# Altium schematic symbol library SamacSys.SchLib: 60 symbols
Pins are listed as number, name and electrical type; pins without a type are passive.

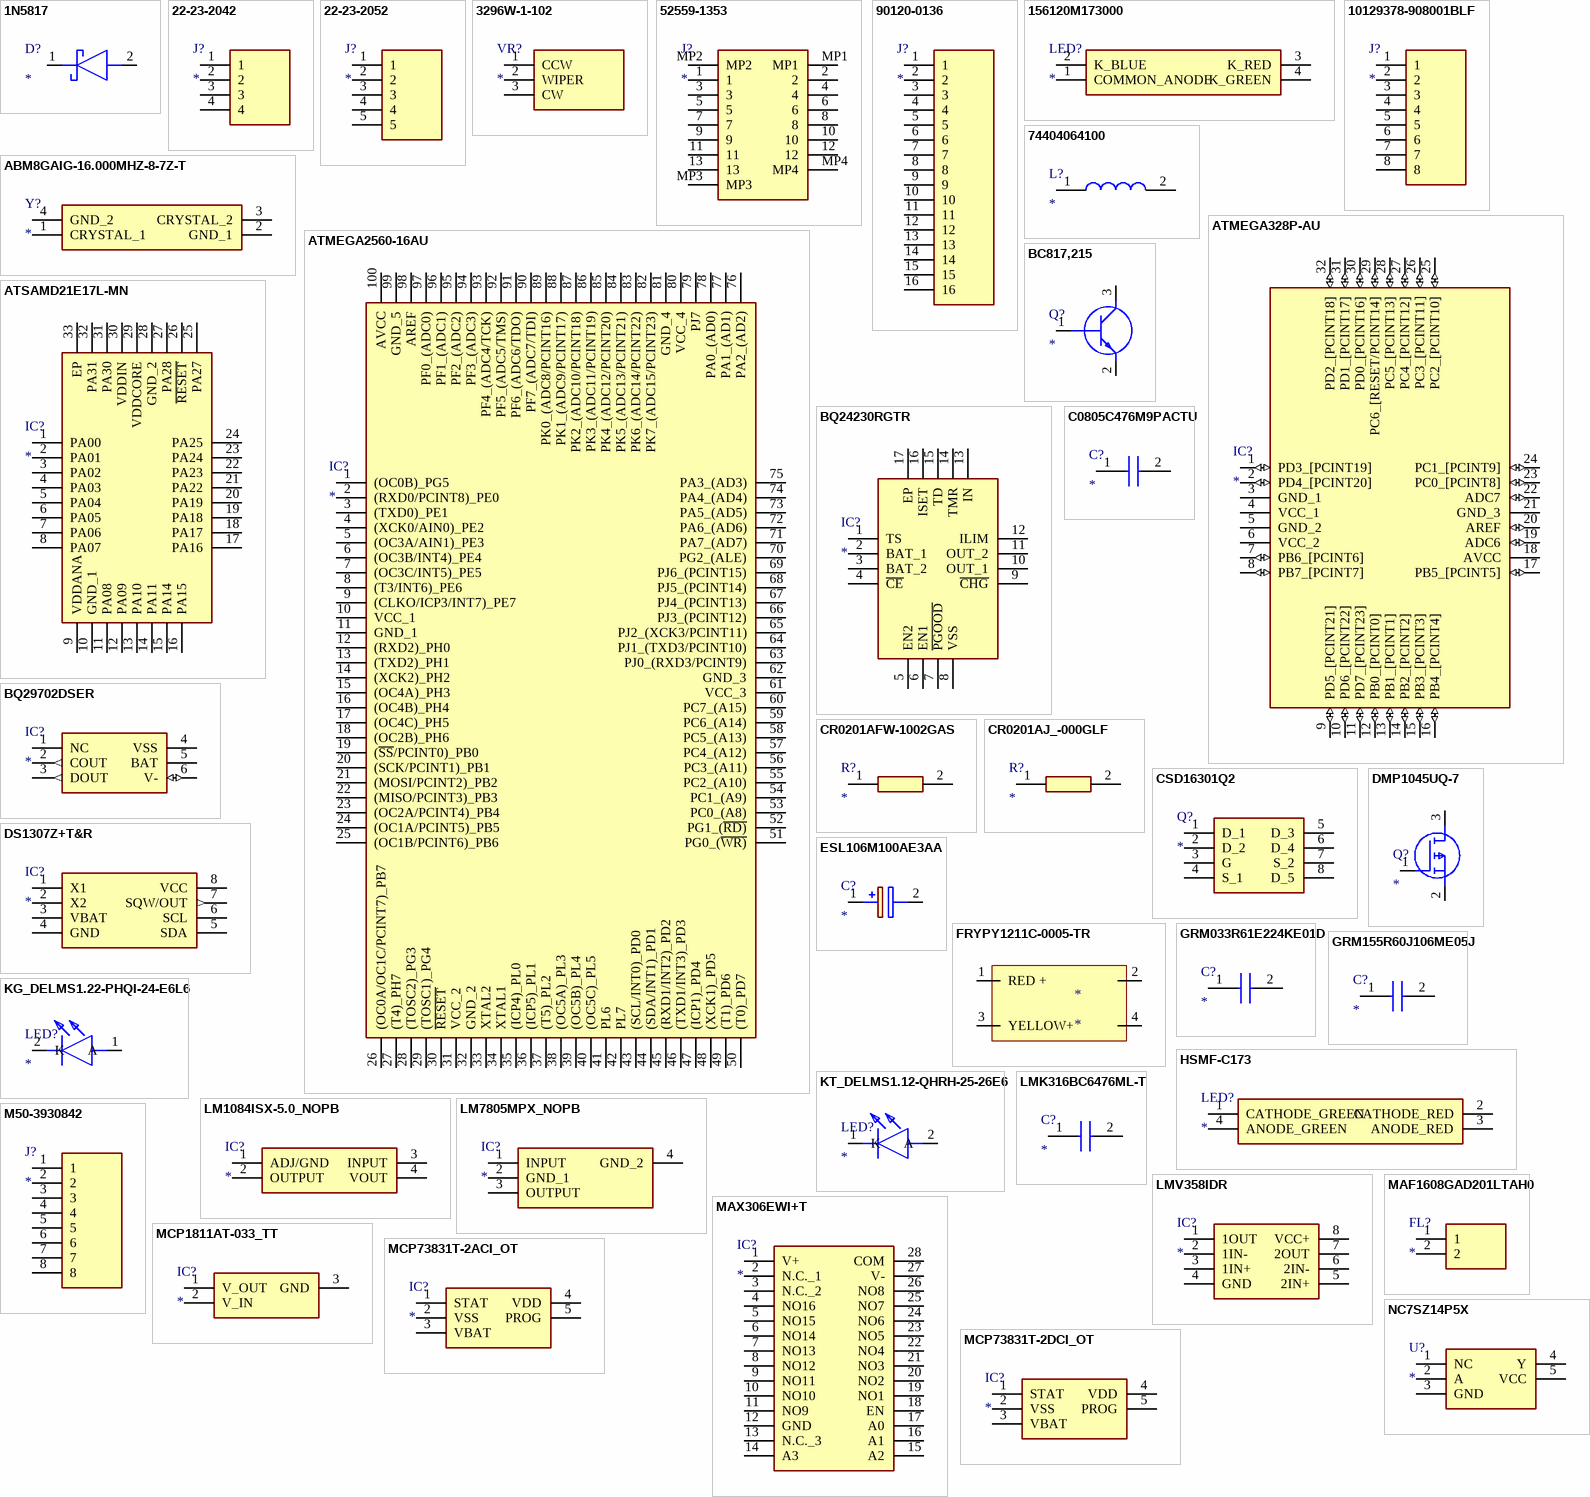
[diagram p0: symbols 1N5817 to NC7SZ14P5X]

## 1N5817
designator D?
Schottky Diode; Manufacturer_Name: Rectron; Manufacturer_Part_Number: 1N5817; Datasheet Link: https://www.arrow.com/en/products/1n5817/rectron
footprint DIOAD1410W90L470D235
pins: 1 K, 2 A

## 22-23-2042
designator J?
Connector; Manufacturer_Name: Molex; Datasheet Link: https://componentsearchengine.com//22-23-2042.pdf; Height: 11.21mm; Mouser2 Part Number: 538-22-23-2042; Mouser2 Price/Stock: https://www.mouser.com/Search/Refine.aspx?Keyword=538-22-23-2042; Manufacturer_Part_Number: 22-23-2042
footprint HDRV4W87P0X254_1X4_1001X635X1121P
pins: 1, 2, 3, 4

## 22-23-2052
designator J?
Connector; Manufacturer_Name: Molex; Datasheet Link: https://componentsearchengine.com//22-23-2052.pdf; Height: 11.08mm; Mouser2 Part Number: 538-22-23-2052; Mouser2 Price/Stock: https://www.mouser.com/Search/Refine.aspx?Keyword=538-22-23-2052; Manufacturer_Part_Number: 22-23-2052
footprint HDRV5W87P0X254_1X5_1255X635X1108P
pins: 1, 2, 3, 4, 5

## 3296W-1-102
designator VR?
Variable Resistor; Manufacturer_Name: Bourns; Manufacturer_Part_Number: 3296W-1-102; Datasheet Link: https://componentsearchengine.com/Datasheets/1/3296W-1-102.pdf; Mouser2 Part Number: 652-3296W-1-102; Mouser2 Price/Stock: https://www.mouser.com/Search/Refine.aspx?Keyword=652-3296W-1-102
footprint 3296W-1
pins: 1 CCW, 2 WIPER, 3 CW

## 52559-1353
designator J?
Connector; Manufacturer_Name: Molex; Manufacturer_Part_Number: 52559-1353; Datasheet Link: https://www.molex.com/molex/products/part-detail/ffc_fpc_connectors/0525591353; Height: 5.5mm
footprint 525591353
pins: 1, 2, 3, 4, 5, 6, 7, 8, 9, 10, 11, 12, 13, MP1, MP2, MP3, MP4

## 90120-0136
designator J?
Connector; Manufacturer_Name: Molex; Manufacturer_Part_Number: 90120-0136; Datasheet Link: https://componentsearchengine.com/Datasheets/1/90120-0136.pdf; Height: 5.6mm; Mouser2 Part Number: 538-90120-0136; Mouser2 Price/Stock: https://www.mouser.com/Search/Refine.aspx?Keyword=538-90120-0136
footprint HDRV16W90P0X254_1X16_4064X249X560P
pins: 1, 2, 3, 4, 5, 6, 7, 8, 9, 10, 11, 12, 13, 14, 15, 16

## 156120M173000
designator LED?
LED; Manufacturer_Name: Wurth Elektronik; Manufacturer_Part_Number: 156120M173000; Datasheet Link: https://componentsearchengine.com//156120M173000.pdf; Height: 1.25mm; Mouser2 Part Number: 710-156120M173000; Mouser2 Price/Stock: https://www.mouser.com/Search/Refine.aspx?Keyword=710-156120M173000
footprint 156120M173000
pins: 1 COMMON_ANODE, 2 K_BLUE, 3 K_RED, 4 K_GREEN

## 10129378-908001BLF
designator J?
Connector; Manufacturer_Name: Amphenol; Manufacturer_Part_Number: 10129378-908001BLF; Datasheet Link: https://cdn.amphenol-icc.com/media/wysiwyg/files/drawing/10129378.pdf; Height: 8.58mm
footprint 2x8
pins: 1, 2, 3, 4, 5, 6, 7, 8

## 74404064100
designator L?
Inductor; Manufacturer_Name: Wurth Elektronik; Manufacturer_Part_Number: 74404064100; Datasheet Link: https://componentsearchengine.com//74404064100.pdf; Height: 4mm; Mouser2 Part Number: 710-74404064100; Mouser2 Price/Stock: https://www.mouser.com/Search/Refine.aspx?Keyword=710-74404064100
footprint 74404064470
pins: 1, 2

## ABM8GAIG-16.000MHZ-8-7Z-T
designator Y?
Crystal or Oscillator; Manufacturer_Name: ABRACON; Manufacturer_Part_Number: ABM8GAIG-16.000MHZ-8-7Z-T; Datasheet Link: https://componentsearchengine.com//ABM8GAIG-16.000MHZ-8-7Z-T.pdf; Height: 0.8mm; Mouser2 Part Number: 815-M8GAIG-16-8-7ZT; Mouser2 Price/Stock: https://www.mouser.com/Search/Refine.aspx?Keyword=815-M8GAIG-16-8-7ZT
footprint ABM8AIG8000MHZ1ZT
pins: 1 CRYSTAL_1, 2 GND_1, 3 CRYSTAL_2, 4 GND_2

## ATMEGA328P-AU
designator IC?
Integrated Circuit; Manufacturer_Name: Microchip; Manufacturer_Part_Number: ATMEGA328P-AU; Datasheet Link: https://componentsearchengine.com/Datasheets/2/ATMEGA328P-AU.pdf; Height: 1.2mm
footprint QFP80P900X900X120-32N
pins: 1 PD3_[PCINT19] (io), 2 PD4_[PCINT20] (io), 3 GND_1 (power), 4 VCC_1 (power), 5 GND_2 (power), 6 VCC_2 (power), 7 PB6_[PCINT6] (io), 8 PB7_[PCINT7] (io), 9 PD5_[PCINT21] (io), 10 PD6_[PCINT22] (io), 11 PD7_[PCINT23] (io), 12 PB0_[PCINT0] (io), 13 PB1_[PCINT1] (io), 14 PB2_[PCINT2] (io), 15 PB3_[PCINT3] (io), 16 PB4_[PCINT4] (io), 17 PB5_[PCINT5] (io), 18 AVCC (power), 19 ADC6 (io), 20 AREF (io), 21 GND_3 (power), 22 ADC7 (io), 23 PC0_[PCINT8] (io), 24 PC1_[PCINT9] (io), 25 PC2_[PCINT10] (io), 26 PC3_[PCINT11] (io), 27 PC4_[PCINT12] (io), 28 PC5_[PCINT13] (io), 29 PC6_[RESET/PCINT14] (io), 30 PD0_[PCINT16] (io), 31 PD1_[PCINT17] (io), 32 PD2_[PCINT18] (io)

## ATMEGA2560-16AU
designator IC?
Integrated Circuit; Manufacturer_Name: Microchip; Manufacturer_Part_Number: ATMEGA2560-16AU; Height: 1.2mm
footprint QFP50P1600X1600X120-100N
pins: 1 (OC0B)_PG5, 2 (RXD0/PCINT8)_PE0, 3 (TXD0)_PE1, 4 (XCK0/AIN0)_PE2, 5 (OC3A/AIN1)_PE3, 6 (OC3B/INT4)_PE4, 7 (OC3C/INT5)_PE5, 8 (T3/INT6)_PE6, 9 (CLKO/ICP3/INT7)_PE7, 10 VCC_1, 11 GND_1, 12 (RXD2)_PH0, 13 (TXD2)_PH1, 14 (XCK2)_PH2, 15 (OC4A)_PH3, 16 (OC4B)_PH4, 17 (OC4C)_PH5, 18 (OC2B)_PH6, 19 (~{SS}/PCINT0)_PB0, 20 (SCK/PCINT1)_PB1, 21 (MOSI/PCINT2)_PB2, 22 (MISO/PCINT3)_PB3, 23 (OC2A/PCINT4)_PB4, 24 (OC1A/PCINT5)_PB5, 25 (OC1B/PCINT6)_PB6, 26 (OC0A/OC1C/PCINT7)_PB7, 27 (T4)_PH7, 28 (TOSC2)_PG3, 29 (TOSC1)_PG4, 30 ~{RESET}, 31 VCC_2, 32 GND_2, 33 XTAL2, 34 XTAL1, 35 (ICP4)_PL0, 36 (ICP5)_PL1, 37 (T5)_PL2, 38 (OC5A)_PL3, 39 (OC5B)_PL4, 40 (OC5C)_PL5, 41 PL6, 42 PL7, 43 (SCL/INT0)_PD0, 44 (SDA/INT1)_PD1, 45 (RXD1/INT2)_PD2, 46 (TXD1/INT3)_PD3, 47 (ICP1)_PD4, 48 (XCK1)_PD5, 49 (T1)_PD6, 50 (T0)_PD7, 51 PG0_(~{WR)}, 52 PG1_(~{RD)}, 53 PC0_(A8), 54 PC1_(A9), 55 PC2_(A10), 56 PC3_(A11), 57 PC4_(A12), 58 PC5_(A13), 59 PC6_(A14), 60 PC7_(A15), 61 VCC_3, 62 GND_3, 63 PJ0_(RXD3/PCINT9), 64 PJ1_(TXD3/PCINT10), 65 PJ2_(XCK3/PCINT11), 66 PJ3_(PCINT12), 67 PJ4_(PCINT13), 68 PJ5_(PCINT14), 69 PJ6_(PCINT15), 70 PG2_(ALE), 71 PA7_(AD7), 72 PA6_(AD6), 73 PA5_(AD5), 74 PA4_(AD4), 75 PA3_(AD3), 76 PA2_(AD2), 77 PA1_(AD1), 78 PA0_(AD0), 79 PJ7, 80 VCC_4, 81 GND_4, 82 PK7_(ADC15/PCINT23), 83 PK6_(ADC14/PCINT22), 84 PK5_(ADC13/PCINT21), 85 PK4_(ADC12/PCINT20), 86 PK3_(ADC11/PCINT19), 87 PK2_(ADC10/PCINT18), 88 PK1_(ADC9/PCINT17), 89 PK0_(ADC8/PCINT16), 90 PF7_(ADC7/TDI), 91 PF6_(ADC6/TDO), 92 PF5_(ADC5/TMS), 93 PF4_(ADC4/TCK), 94 PF3_(ADC3), 95 PF2_(ADC2), 96 PF1_(ADC1), 97 PF0_(ADC0), 98 AREF, 99 GND_5, 100 AVCC

## ATSAMD21E17L-MN
designator IC?
Integrated Circuit; Manufacturer_Name: Microchip; Manufacturer_Part_Number: ATSAMD21E17L-MN; Description: ARM Microcontrollers - MCU 32QFN 105C; Datasheet Link: https://componentsearchengine.com//ATSAMD21E17L-MN.pdf; Height: 1mm; Mouser2 Part Number: 556-ATSAMD21E17L-MN; Mouser2 Price/Stock: https://www.mouser.com/Search/Refine.aspx?Keyword=556-ATSAMD21E17L-MN
footprint QFN50P500X500X100-33N-D
pins: 1 PA00, 2 PA01, 3 PA02, 4 PA03, 5 PA04, 6 PA05, 7 PA06, 8 PA07, 9 VDDANA, 10 GND_1, 11 PA08, 12 PA09, 13 PA10, 14 PA11, 15 PA14, 16 PA15, 17 PA16, 18 PA17, 19 PA18, 20 PA19, 21 PA22, 22 PA23, 23 PA24, 24 PA25, 25 PA27, 26 ~{RESET}, 27 PA28, 28 GND_2, 29 VDDCORE, 30 VDDIN, 31 PA30, 32 PA31, 33 EP

## BC817,215
designator Q?
Transistor BJT NPN; Manufacturer_Name: Nexperia; Manufacturer_Part_Number: BC817,215; Datasheet Link: https://componentsearchengine.com//BC817,215.pdf; Height: 1.1mm; Mouser2 Part Number: 771-BC817-T/R; Mouser2 Price/Stock: https://www.mouser.com/Search/Refine.aspx?Keyword=771-BC817-T%2FR
footprint SOT95P230X110-3N
pins: 1 B, 2 E, 3 C

## BQ24230RGTR
designator IC?
Integrated Circuit; Manufacturer_Name: Texas Instruments; Manufacturer_Part_Number: BQ24230RGTR; Datasheet Link: http://www.ti.com/lit/ds/symlink/bq24232.pdf; Height: 1mm; Mouser2 Part Number: 595-BQ24230RGTR; Mouser2 Price/Stock: https://www.mouser.com/Search/Refine.aspx?Keyword=595-BQ24230RGTR
footprint QFN50P300X300X100-17N-D
pins: 1 TS, 2 BAT_1, 3 BAT_2, 4 ~{CE}, 5 EN2, 6 EN1, 7 ~{PGOOD}, 8 VSS, 9 ~{CHG}, 10 OUT_1, 11 OUT_2, 12 ILIM, 13 IN, 14 TMR, 15 TD, 16 ISET, 17 EP

## BQ29702DSER
designator IC?
Integrated Circuit; Manufacturer_Name: Texas Instruments; Manufacturer_Part_Number: BQ29702DSER; Description: Li-Ion/Li Polymer Advanced Single-Cell Battery Protector IC Family; Datasheet Link: http://www.ti.com/lit/ds/symlink/bq2971.pdf; Height: 0mm; Mouser2 Part Number: 595-BQ29702DSER; Mouser2 Price/Stock: https://www.mouser.com/Search/Refine.aspx?Keyword=595-BQ29702DSER
footprint TPS3710QDSERQ1
pins: 1 NC, 2 COUT (out), 3 DOUT (out), 4 VSS (power), 5 BAT (power), 6 V- (io)

## C0805C476M9PACTU
designator C?
Capacitor; Manufacturer_Name: Kemet; Manufacturer_Part_Number: C0805C476M9PACTU; Description: CAPACITOR; Datasheet Link: http://componentsearchengine.com/Datasheets/1/C0805C476M9PACTU.pdf
footprint CAPC2013X140N
pins: 1 C1, 2 C2

## CR0201AFW-1002GAS
designator R?
Resistor; Manufacturer_Name: Bourns; Manufacturer_Part_Number: CR0201AFW-1002GAS; Datasheet Link: https://componentsearchengine.com//CR0201AFW-1002GAS.pdf; Height: 0.26mm; Mouser2 Part Number: 652-CR0201AFW1002GAS; Mouser2 Price/Stock: https://www.mouser.com/Search/Refine.aspx?Keyword=652-CR0201AFW1002GAS
footprint RESC0603X26N
pins: 1, 2

## CR0201AJ_-000GLF
designator R?
Resistor; Manufacturer_Name: Bourns; Manufacturer_Part_Number: CR0201AJ/-000GLF; Description: Thick Film Resistors - SMD ResA 0201 0R Jumper 50mW AEC-Q200; Datasheet Link: https://www.mouser.in/ProductDetail/Bourns/CR0201AJ-000GLF?qs=sGAEpiMZZMukHu%252BjC5l7YTeJW4S2VGRhAxJv1UKZWuc%3D; Height: 0.26mm
footprint RESC0603X26N
pins: 1, 2

## CSD16301Q2
designator Q?
Transistor; Manufacturer_Name: Texas Instruments; Manufacturer_Part_Number: CSD16301Q2; Description: Texas Instruments CSD16301Q2 N-channel MOSFET Transistor; Mouser2 Part Number: 595-CSD16301Q2; Mouser2 Price/Stock: https://www.mouser.com/Search/Refine.aspx?Keyword=595-CSD16301Q2
footprint CSD16301Q2
pins: 1 D_1, 2 D_2, 3 G, 4 S_1, 5 D_3, 6 D_4, 7 S_2, 8 D_5

## DMP1045UQ-7
designator Q?
MOSFET (P-Channel); Manufacturer_Name: Diodes Inc.; Manufacturer_Part_Number: DMP1045UQ-7; Datasheet Link: https://componentsearchengine.com//DMP1045UQ-7.pdf; Height: 1mm; Mouser2 Part Number: 621-DMP1045UQ-7; Mouser2 Price/Stock: https://www.mouser.com/Search/Refine.aspx?Keyword=621-DMP1045UQ-7
footprint SOT96P240X100-3N
pins: 1 G, 2 S, 3 D

## DS1307Z+T&R
designator IC?
Integrated Circuit; Manufacturer_Name: Maxim Integrated; Manufacturer_Part_Number: DS1307Z+T&R; Datasheet Link: https://componentsearchengine.com//DS1307Z+T&R.pdf; Height: 1.75mm; Mouser2 Part Number: 700-DS1307ZT&R; Mouser2 Price/Stock: https://www.mouser.com/Search/Refine.aspx?Keyword=700-DS1307ZT%26R
footprint SOIC127P600X175-8N
pins: 1 X1, 2 X2, 3 VBAT, 4 GND (power), 5 SDA, 6 SCL, 7 SQW/OUT (out), 8 VCC (power)

## ESL106M100AE3AA
designator C?
Capacitor Polarised; Manufacturer_Name: Kemet; Manufacturer_Part_Number: ESL106M100AE3AA; Height: 12.5mm
footprint CAPPRD200W50D630H1250
pins: 1 +, 2 -

## FRYPY1211C-0005-TR
designator *
pins: 1 RED +, 2 RED +, 3 YELLOW+, 4 RED +

## GRM033R61E224KE01D
designator C?
Capacitor; Manufacturer_Name: Murata Electronics; Manufacturer_Part_Number: GRM033R61E224KE01D; Description: Capacitor GRM03_0.03 L=0.6mm W=0.3mm T=0.3mm; Datasheet Link: https://componentsearchengine.com//GRM033R61E224KE01D.pdf; Height: 0.33mm; Mouser2 Part Number: 81-GRM033R61E224KE1D; Mouser2 Price/Stock: https://www.mouser.com/Search/Refine.aspx?Keyword=81-GRM033R61E224KE1D
footprint CAPC0603X33N
pins: 1, 2

## GRM155R60J106ME05J
designator C?
Capacitor; Manufacturer_Name: Murata Electronics; Manufacturer_Part_Number: GRM155R60J106ME05J; Description: Capacitor GRM15_0.20 L=1.0mm W=0.5mm T=0.5mm; Datasheet Link: https://psearch.en.murata.com/capacitor/product/GRM155R60J106ME05%23.html; Height: 0.55mm
footprint CAPC1005X55N
pins: 1, 2

## HSMF-C173
designator LED?
LED; Manufacturer_Name: Avago Technologies; Manufacturer_Part_Number: HSMF-C173; Datasheet Link: https://docs.broadcom.com/docs/HSMF-C173-DS; Height: 0.5mm; Mouser2 Part Number: 630-HSMF-C173; Mouser2 Price/Stock: https://www.mouser.com/Search/Refine.aspx?Keyword=630-HSMF-C173
footprint HSMFC173
pins: 1 CATHODE_GREEN, 2 CATHODE_RED, 3 ANODE_RED, 4 ANODE_GREEN

## KG_DELMS1.22-PHQI-24-E6L6
designator LED?
LED; Manufacturer_Name: OSRAM; Manufacturer_Part_Number: KG DELMS1.22-PHQI-24-E6L6; Datasheet Link: https://dammedia.osram.info/media/resource/hires/osram-dam-5667035/KG%20DELMS1.22_EN.pdf; Height: 0.6mm; Mouser2 Part Number: 720-KGDELMS122A4854; Mouser2 Price/Stock: https://www.mouser.com/Search/Refine.aspx?Keyword=720-KGDELMS122A4854
footprint KGDELMS122PHQI24E6L6
pins: 1 A, 2 K

## KT_DELMS1.12-QHRH-25-26E6
designator LED?
LED; Manufacturer_Name: OSRAM; Manufacturer_Part_Number: KT DELMS1.12-QHRH-25-26E6; Datasheet Link: https://www.mouser.co.uk/ProductDetail/720-KTDELMS112A5167; Height: 0.6mm; Mouser2 Part Number: 720-KTDELMS112A5167; Mouser2 Price/Stock: https://www.mouser.com/Search/Refine.aspx?Keyword=720-KTDELMS112A5167
footprint KTDELMS112QHRH2526E6
pins: 1 K, 2 A

## LM1084ISX-5.0_NOPB
designator IC?
Integrated Circuit; Manufacturer_Name: Texas Instruments; Manufacturer_Part_Number: LM1084ISX-5.0/NOPB; Datasheet Link: http://www.ti.com/lit/gpn/lm1084; Mouser2 Part Number: 926-LM1084ISX50NOPB; Mouser2 Price/Stock: https://www.mouser.com/Search/Refine.aspx?Keyword=926-LM1084ISX50NOPB
footprint KTT0003B
pins: 1 ADJ/GND, 2 OUTPUT, 3 INPUT, 4 VOUT

## LM7805MPX_NOPB
designator IC?
Integrated Circuit; Manufacturer_Name: Texas Instruments; Manufacturer_Part_Number: LM7805MPX/NOPB; Datasheet Link: https://www.arrow.com/en/products/lm7805mpxnopb/texas-instruments; Height: 1.8mm; Mouser2 Part Number: 595-LM7805MPX/NOPB; Mouser2 Price/Stock: https://www.mouser.com/Search/Refine.aspx?Keyword=595-LM7805MPX%2FNOPB
footprint SOT230P700X180-4N
pins: 1 INPUT, 2 GND_1, 3 OUTPUT, 4 GND_2

## LMK316BC6476ML-T
designator C?
Capacitor; Manufacturer_Name: TAIYO YUDEN; Manufacturer_Part_Number: LMK316BC6476ML-T; Datasheet Link: https://componentsearchengine.com/Datasheets/1/LMK316BC6476ML-T.pdf; Height: 1.8mm; Mouser2 Part Number: 963-LMK316BC6476ML-T; Mouser2 Price/Stock: https://www.mouser.com/Search/Refine.aspx?Keyword=963-LMK316BC6476ML-T
footprint CAPC3216X180N
pins: 1, 2

## LMV358IDR
designator IC?
Integrated Circuit; Manufacturer_Name: Texas Instruments; Manufacturer_Part_Number: LMV358IDR; Datasheet Link: http://www.ti.com/lit/gpn/lmv358; Height: 1.75mm; Mouser2 Part Number: 595-LMV358IDR; Mouser2 Price/Stock: https://www.mouser.com/Search/Refine.aspx?Keyword=595-LMV358IDR
footprint SOIC127P600X175-8N
pins: 1 1OUT, 2 1IN-, 3 1IN+, 4 GND, 5 2IN+, 6 2IN-, 7 2OUT, 8 VCC+

## M50-3930842
designator J?
Connector; Manufacturer_Name: HARWIN; Manufacturer_Part_Number: M50-3930842; Datasheet Link: https://componentsearchengine.com/Datasheets/1/M50-3930842.pdf; Height: 2.3mm; Mouser2 Part Number: 855-M50-3930842; Mouser2 Price/Stock: https://www.mouser.com/Search/Refine.aspx?Keyword=855-M50-3930842
footprint M503930842
pins: 1, 2, 3, 4, 5, 6, 7, 8

## MAF1608GAD201LTAH0
designator FL?
Filter; Manufacturer_Name: TDK; Manufacturer_Part_Number: MAF1608GAD201LTAH0; Description: Ferrite Beads 0603 30ohms 2.3A Noise Suprsn filter; Datasheet Link: https://componentsearchengine.com//MAF1608GAD201LTAH0.pdf; Height: 0.75mm; Mouser2 Part Number: 810-MAF1608GAD201LTA; Mouser2 Price/Stock: https://www.mouser.com/Search/Refine.aspx?Keyword=810-MAF1608GAD201LTA
footprint INDC1608X75N
pins: 1, 2

## MAX306EWI+T
designator IC?
Integrated Circuit; Manufacturer_Name: Maxim Integrated; Manufacturer_Part_Number: MAX306EWI+T; Datasheet Link: https://datasheets.maximintegrated.com/en/ds/MAX306-MAX307.pdf; Height: 2.65mm
footprint SOIC127P1032X265-28N
pins: 1 V+, 2 N.C._1, 3 N.C._2, 4 NO16, 5 NO15, 6 NO14, 7 NO13, 8 NO12, 9 NO11, 10 NO10, 11 NO9, 12 GND, 13 N.C._3, 14 A3, 15 A2, 16 A1, 17 A0, 18 EN, 19 NO1, 20 NO2, 21 NO3, 22 NO4, 23 NO5, 24 NO6, 25 NO7, 26 NO8, 27 V-, 28 COM

## MCP1811AT-033_TT
designator IC?
Integrated Circuit; Manufacturer_Name: Microchip; Manufacturer_Part_Number: MCP1811AT-033/TT; Description: LDO Voltage Regulators Ultra Low Iq LDO; Datasheet Link: https://componentsearchengine.com//MCP1811AT-033_TT.pdf; Height: 1.12mm; Mouser2 Part Number: 579-MCP1811AT-033/TT; Mouser2 Price/Stock: https://www.mouser.com/Search/Refine.aspx?Keyword=579-MCP1811AT-033%2FTT
footprint SOT95P237X112-3N
pins: 1 V_OUT, 2 V_IN, 3 GND

## MCP73831T-2ACI_OT
designator IC?
Integrated Circuit; Manufacturer_Name: Microchip; Manufacturer_Part_Number: MCP73831T-2ACI/OT; Description: Li-Ion Charge Controller 4.2V SOT23-5; Datasheet Link: https://componentsearchengine.com//MCP73831T-2ACI_OT.pdf; Height: 1.45mm; Mouser2 Part Number: 579-MCP73831T-2ACIOT; Mouser2 Price/Stock: https://www.mouser.com/Search/Refine.aspx?Keyword=579-MCP73831T-2ACIOT
footprint SOT95P270X145-5N
pins: 1 STAT, 2 VSS, 3 VBAT, 4 VDD, 5 PROG

## MCP73831T-2DCI_OT
designator IC?
Integrated Circuit; Manufacturer_Name: Microchip; Manufacturer_Part_Number: MCP73831T-2DCI/OT; Description: Charge Controller Li-Ion/Li-Pol; Datasheet Link: https://componentsearchengine.com//MCP73831T-2DCI_OT.pdf; Height: 1.45mm; Mouser2 Part Number: 579-MCP73831T-2DCIOT; Mouser2 Price/Stock: https://www.mouser.com/Search/Refine.aspx?Keyword=579-MCP73831T-2DCIOT
footprint SOT95P270X145-5N
pins: 1 STAT, 2 VSS, 3 VBAT, 4 VDD, 5 PROG

## NC7SZ14P5X
designator U?
Undefined or Miscellaneous; Manufacturer_Name: ON Semiconductor; Manufacturer_Part_Number: NC7SZ14P5X; Description: Inverter with Schmitt Trigger Input; Datasheet Link: https://componentsearchengine.com/Datasheets/2/NC7SZ14P5X.pdf; Height: 1.1mm
footprint SOT65P210X110-5N
pins: 1 NC, 2 A, 3 GND, 4 Y, 5 VCC

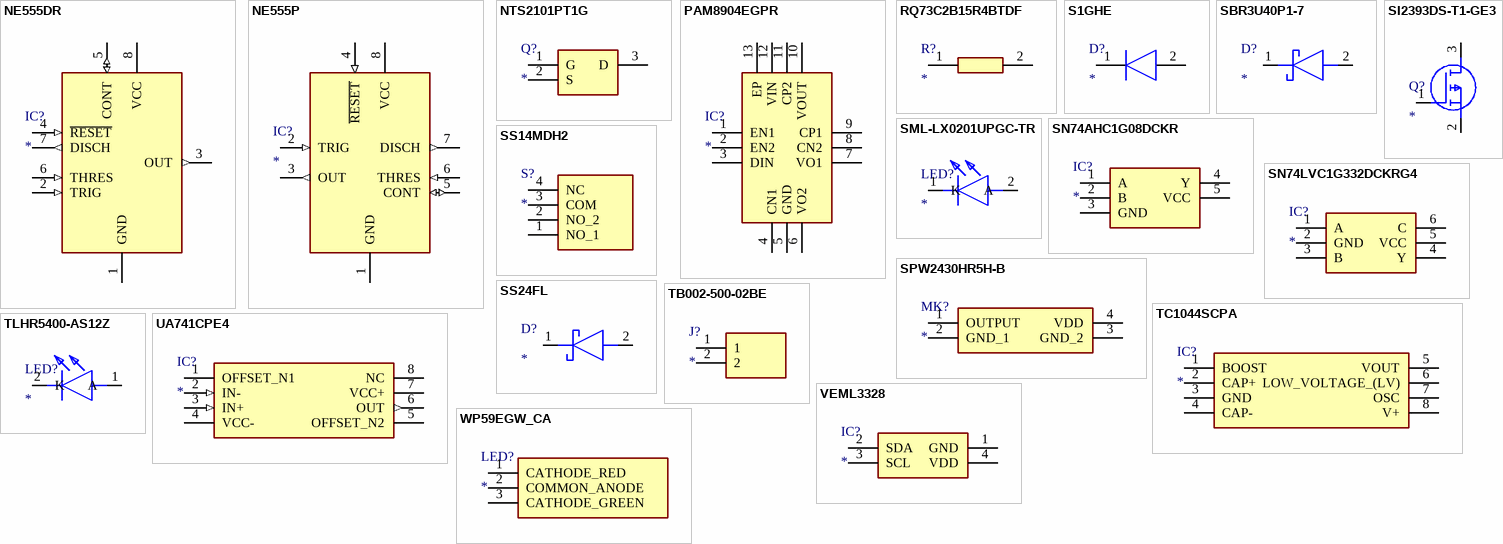
[diagram p1: symbols NE555DR to WP59EGW_CA]

## NE555DR
designator IC?
Integrated Circuit; Manufacturer_Name: Texas Instruments; Manufacturer_Part_Number: NE555DR; Datasheet Link: http://www.ti.com/lit/ds/symlink/ne555.pdf; Height: 1.75mm; Mouser Part Number: 595-NE555DR; Mouser Price/Stock: https://www.mouser.com/Search/Refine.aspx?Keyword=595-NE555DR; RS Part Number: 1218414; RS Price/Stock: http://uk.rs-online.com/web/p/products/1218414
footprint SOIC127P600X175-8N
pins: 1 GND (power), 2 TRIG (in), 3 OUT (out), 4 ~{RESET} (in), 5 CONT (io), 6 THRES (in), 7 DISCH (out), 8 VCC (power)

## NE555P
designator IC?
Integrated Circuit; Manufacturer_Name: Texas Instruments; Manufacturer_Part_Number: NE555P; Datasheet Link: http://www.ti.com/lit/ds/symlink/ne555.pdf; Height: 5.08mm; Mouser2 Part Number: 595-NE555P; Mouser2 Price/Stock: https://www.mouser.com/Search/Refine.aspx?Keyword=595-NE555P
footprint DIP794W53P254L959H508Q8N
pins: 1 GND (power), 2 TRIG (in), 3 OUT (out), 4 ~{RESET} (in), 5 CONT (io), 6 THRES (in), 7 DISCH (out), 8 VCC (power)

## NTS2101PT1G
designator Q?
Transistor; Manufacturer_Name: ON Semiconductor; Manufacturer_Part_Number: NTS2101PT1G; Description: Power MOSFET; Datasheet Link: http://www.onsemi.com/pub/Collateral/NTS2101P-D.PDF; Height: 1mm
footprint SOT65P220X100-3N
pins: 1 G, 2 S, 3 D

## PAM8904EGPR
designator IC?
Integrated Circuit; Manufacturer_Name: Diodes Inc.; Manufacturer_Part_Number: PAM8904EGPR; Description: Audio Amplifiers Audio High Volt; Datasheet Link: https://www.diodes.com/assets/Datasheets/PAM8904E.pdf; Height: 0.8mm; Mouser2 Part Number: 621-PAM8904EGPR; Mouser2 Price/Stock: https://www.mouser.com/Search/Refine.aspx?Keyword=621-PAM8904EGPR
footprint QFN40P200X200X80-13N-D
pins: 1 EN1, 2 EN2, 3 DIN, 4 CN1, 5 GND, 6 VO2, 7 VO1, 8 CN2, 9 CP1, 10 VOUT, 11 CP2, 12 VIN, 13 EP

## RQ73C2B15R4BTDF
designator R?
Resistor; Manufacturer_Name: TE Connectivity; Manufacturer_Part_Number: RQ73C2B15R4BTDF; Datasheet Link: https://componentsearchengine.com/Datasheets/1/RQ73C2B15R4BTDF.pdf; Height: 0.75mm
footprint FUSC3116X75N
pins: 1, 2

## S1GHE
designator D?
Diode; Manufacturer_Name: ON Semiconductor; Manufacturer_Part_Number: S1GHE; Description: ON SEMICONDUCTOR - S1GHE - RECTIFIER; Datasheet Link: https://www.onsemi.com/pub/Collateral/S1JHE-D.pdf; Height: 0.75mm
footprint S1GHE
pins: 1 K, 2 A

## SBR3U40P1-7
designator D?
Schottky Diode; Manufacturer_Name: Diodes Inc.; Manufacturer_Part_Number: SBR3U40P1-7; Height: 1mm
footprint SODFL3718X100N
pins: 1 K, 2 A

## SI2393DS-T1-GE3
designator Q?
MOSFET (P-Channel); Manufacturer_Name: Vishay; Manufacturer_Part_Number: SI2393DS-T1-GE3; Datasheet Link: https://www.arrow.com/en/products/si2393ds-t1-ge3/vishay; Height: 1.12mm
footprint SOT95P237X112-3N
pins: 1 G, 2 S, 3 D

## SML-LX0201UPGC-TR
designator LED?
LED; Manufacturer_Name: Lumex; Manufacturer_Part_Number: SML-LX0201UPGC-TR; Description: LUMEX - SML-LX0201UPGC-TR - LED; Datasheet Link: https://componentsearchengine.com//SML-LX0201UPGC-TR.pdf; Height: 0.46mm; Mouser2 Part Number: 696-SMLLX0201UPGCTR; Mouser2 Price/Stock: https://www.mouser.com/Search/Refine.aspx?Keyword=696-SMLLX0201UPGCTR
footprint SMLLX0201UPGCTR
pins: 1 K, 2 A

## SN74AHC1G08DCKR
designator IC?
Integrated Circuit; Manufacturer_Name: Texas Instruments; Manufacturer_Part_Number: SN74AHC1G08DCKR; Description: SN74AHC1G08DCKRG4; Datasheet Link: http://www.ti.com/lit/ds/symlink/sn74ahc1g08.pdf; Height: 1.1mm
footprint SOT65P210X110-5N
pins: 1 A, 2 B, 3 GND (power), 4 Y, 5 VCC (power)

## SN74LVC1G332DCKRG4
designator IC?
Integrated Circuit; Manufacturer_Name: Texas Instruments; Manufacturer_Part_Number: SN74LVC1G332DCKRG4; Description: OR Gate Single 3-IN CMOS 6-Pin SC-70; Datasheet Link: http://www.ti.com/lit/ds/symlink/sn74lvc1g332.pdf; Height: 1.1mm
footprint SOT65P210X110-6N
pins: 1 A, 2 GND (power), 3 B, 4 Y, 5 VCC (power), 6 C

## SPW2430HR5H-B
designator MK?
Microphone; Manufacturer_Name: Knowles; Manufacturer_Part_Number: SPW2430HR5H-B; Description: MEMS Microphones MEMS Microphone; Height: 1mm; Mouser2 Part Number: 721-SPW2430HR5HB; Mouser2 Price/Stock: https://www.mouser.com/Search/Refine.aspx?Keyword=721-SPW2430HR5HB
footprint SPW2430HR5HB
pins: 1 OUTPUT, 2 GND_1, 3 GND_2, 4 VDD

## SS14MDH2
designator S?
Switch; Manufacturer_Name: NKK Switches; Manufacturer_Part_Number: SS14MDH2; Height: 5mm
footprint SS14MDH2
pins: 1 NO_1, 2 NO_2, 3 COM, 4 NC

## SS24FL
designator D?
Schottky Diode; Manufacturer_Name: ON Semiconductor; Manufacturer_Part_Number: SS24FL; Datasheet Link: https://componentsearchengine.com//SS24FL.pdf; Height: 1.08mm; Mouser2 Part Number: 512-SS24FL; Mouser2 Price/Stock: https://www.mouser.com/Search/Refine.aspx?Keyword=512-SS24FL
footprint SODFL3617X108N
pins: 1 K, 2 A

## TB002-500-02BE
designator J?
Connector; Manufacturer_Name: CUI Devices; Manufacturer_Part_Number: TB002-500-02BE; Datasheet Link: https://componentsearchengine.com/Datasheets/1/TB002-500-02BE.pdf; Height: 10.4mm
footprint SHDR2W100P0X500_1X2_1000X760X1040P
pins: 1, 2

## TC1044SCPA
designator IC?
Integrated Circuit; Manufacturer_Name: Microchip; Manufacturer_Part_Number: TC1044SCPA; Datasheet Link: https://componentsearchengine.com//TC1044SCPA.pdf; Height: 5.08mm; Mouser2 Part Number: 579-TC1044SCPA; Mouser2 Price/Stock: https://www.mouser.com/Search/Refine.aspx?Keyword=579-TC1044SCPA
footprint DIP762W56P254L950H508Q8N
pins: 1 BOOST, 2 CAP+, 3 GND, 4 CAP-, 5 VOUT, 6 LOW_VOLTAGE_(LV), 7 OSC, 8 V+

## TLHR5400-AS12Z
designator LED?
LED; Manufacturer_Name: Vishay; Manufacturer_Part_Number: TLHR5400-AS12Z; Datasheet Link: http://www.vishay.com/docs/83012/tlhg540.pdf; Height: 12.8mm
footprint TLHR5400AS12Z
pins: 1 A, 2 K

## UA741CPE4
designator IC?
Integrated Circuit; Manufacturer_Name: Texas Instruments; Manufacturer_Part_Number: UA741CPE4; Datasheet Link: http://www.ti.com/lit/ds/symlink/ua741.pdf; Height: 5.08mm; Mouser2 Part Number: 595-UA741CPE4; Mouser2 Price/Stock: https://www.mouser.com/Search/Refine.aspx?Keyword=595-UA741CPE4
footprint DIP794W53P254L959H508Q8N
pins: 1 OFFSET_N1, 2 IN- (in), 3 IN+ (in), 4 VCC- (power), 5 OFFSET_N2, 6 OUT (out), 7 VCC+ (power), 8 NC

## VEML3328
designator IC?
Integrated Circuit; Manufacturer_Name: Vishay; Manufacturer_Part_Number: VEML3328; Datasheet Link: https://componentsearchengine.com//VEML3328.pdf; Height: 1.1mm; Mouser2 Part Number: 78-VEML3328; Mouser2 Price/Stock: https://www.mouser.com/Search/Refine.aspx?Keyword=78-VEML3328
footprint VEML3328
pins: 1 GND, 2 SDA, 3 SCL, 4 VDD

## WP59EGW_CA
designator LED?
LED; Manufacturer_Name: Kingbright; Manufacturer_Part_Number: WP59EGW/CA; Datasheet Link: https://componentsearchengine.com/Datasheets/1/WP59EGW_CA.pdf; Height: 8.85mm
footprint WP59EGWCA
pins: 1 CATHODE_RED, 2 COMMON_ANODE, 3 CATHODE_GREEN